# Altium footprint library 2021-06-29_08-18-09.PcbLib: 3 footprints
Each footprint in its own frame and in the unit in brackets; x right, y up, seen from the top. Pads: shape width x height; smd on the part's side, far side on the other; paste and mask are expansions set on the pad; w line width, h text height; cw(c..) or ccw(c..) is an arc to the next point about the centre after c.
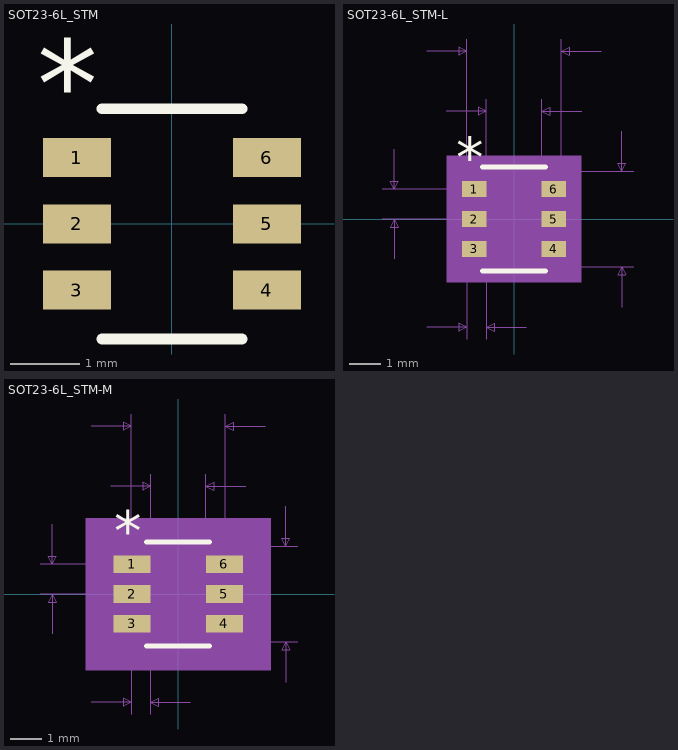
[diagram p0: the footprints below, top view; thin cyan lines are the x and y axes]

## SOT23-6L_STM [mm]
pads (6):
  rect 0.972x0.558 smd paste+0 mask+0: 1(-1.362,0.95) 2(-1.362,0) 3(-1.362,-0.95) 4(1.362,-0.95) 5(1.362,0) 6(1.362,0.95)
Top Overlay:
  lines w0.152: -1.003,-1.651 1.003,-1.651 ; -1.003,1.651 1.003,1.651
  text "*" at -1.934,1.381 h1.27
3D body "SOT23-6L_STM.step": height 1.45, standoff 0, extent -1.499,-1.524 1.499,1.524

## SOT23-6L_STM-L [mil]
pads (6):
  rect 30.41x20 smd paste+0 mask+0: 1(-49.7,37.4) 2(-49.7,0) 3(-49.7,-37.4) 4(49.7,-37.4) 5(49.7,0) 6(49.7,37.4)
Top Overlay:
  lines w6: -39.5,-65 39.5,-65 ; -39.5,65 39.5,65
  text "*" at -72.2,52.4 h50
Mechanical 5:
  region: 83.91,-79 -83.91,-79 -83.91,79 83.91,79
Mechanical 7:
  lines w1: -164.7,0 -49.7,0 ; -164.7,37.4 -49.7,37.4 ; -149.7,-50 -149.7,0 ; -149.7,87.4 -149.7,37.4 ; -109,-135 -59,-135 ; -109,210 -59,210 ; -84.5,135 -34.5,135 ; -59,-150 -59,0 -59,225 ; -35,-150 -35,0 ; -34.5,0 -34.5,150 ; 0,-60 149.5,-60 ; 0,60 149.5,60 ; 15,-135 -35,-135 ; 34.5,0 34.5,150 ; 59,0 59,225 ; 84.5,135 34.5,135 ; 109,210 59,210 ; 134.5,-110 134.5,-60 ; 134.5,110 134.5,60 ; -149.7,0 -154.7,-10 -144.7,-10 -149.7,0 ; -149.7,37.4 -154.7,47.4 -144.7,47.4 -149.7,37.4 ; -59,-135 -69,-130 -69,-140 -59,-135 ; -59,210 -69,215 -69,205 -59,210 ; -35,-135 -25,-130 -25,-140 -35,-135 ; -34.5,135 -44.5,140 -44.5,130 -34.5,135 ; 34.5,135 44.5,140 44.5,130 34.5,135 ; 59,210 69,215 69,205 59,210 ; 134.5,-60 129.5,-70 139.5,-70 134.5,-60 ; 134.5,60 129.5,70 139.5,70 134.5,60
  text "Default Padstyle: r77_51" at -300,-260 h50
  text "Pin One Padstyle: r77_51" at -300,-320 h50
  text "Alt 1 Padstyle: b152_229h76" at -337.5,-500 h50
  text "Alt 2 Padstyle: b229_152h76" at -337.5,-560 h50
  text "0.069in/1.753mm" at -93.75,155 h25
  text "0.118in/2.997mm" at -93.75,230 h25
  text "0.12in/3.048mm" at 154.5,-12.5 h25
  text "0.037in/0.95mm" at -344.7,6.2 h25
  text "0.024in/0.61mm" at -134.5,-180 h25
Mechanical 13:
  lines w0: -12,60 ccw(c0,60) 12,60
  lines w1: -59,-47.4 -59,-27.4 -34.5,-27.4 -34.5,-47.4 -59,-47.4 ; -59,-10 -59,10 -34.5,10 -34.5,-10 -59,-10 ; -59,27.4 -59,47.4 -34.5,47.4 -34.5,27.4 -59,27.4 ; -34.5,-60 34.5,-60 34.5,60 -34.5,60 -34.5,-60 ; 34.5,-47.4 34.5,-27.4 59,-27.4 59,-47.4 34.5,-47.4 ; 34.5,-10 34.5,10 59,10 59,-10 34.5,-10 ; 34.5,27.4 34.5,47.4 59,47.4 59,27.4 34.5,27.4
  text "*" at -32,7 h50
Mechanical 15:
  region: -38.5,-51.4 -68.91,-51.4 -68.91,51.4 -38.5,51.4 -38.5,64 38.5,64 38.5,51.4 68.91,51.4 68.91,-51.4 38.5,-51.4 38.5,-64 -38.5,-64
  lines w6: -68.91,-51.4 -68.91,51.4 -38.5,51.4 -38.5,64 38.5,64 38.5,51.4 68.91,51.4 68.91,-51.4 38.5,-51.4 38.5,-64 -38.5,-64 -38.5,-51.4 -68.91,-51.4
3D body: height 10, standoff 0, extent 0,0 10,10

## SOT23-6L_STM-M [mm]
pads (6):
  rect 1.172x0.558 smd paste+0 mask+0: 1(-1.462,0.95) 2(-1.462,0) 3(-1.462,-0.95) 4(1.462,-0.95) 5(1.462,0) 6(1.462,0.95)
Top Overlay:
  lines w0.152: -1.003,-1.651 1.003,-1.651 ; -1.003,1.651 1.003,1.651
  text "*" at -2.034,1.381 h1.27
Mechanical 5:
  region: 2.938,-2.413 -2.938,-2.413 -2.938,2.413 2.938,2.413
Mechanical 7:
  lines w0.025: -4.383,0 -1.462,0 ; -4.383,0.95 -1.462,0.95 ; -4.002,-1.27 -4.002,0 ; -4.002,2.22 -4.002,0.95 ; -2.769,-3.429 -1.499,-3.429 ; -2.769,5.334 -1.499,5.334 ; -2.146,3.429 -0.876,3.429 ; -1.499,-3.81 -1.499,0 -1.499,5.715 ; -0.889,-3.81 -0.889,0 ; -0.876,0 -0.876,3.81 ; 0,-1.524 3.797,-1.524 ; 0,1.524 3.797,1.524 ; 0.381,-3.429 -0.889,-3.429 ; 0.876,0 0.876,3.81 ; 1.499,0 1.499,5.715 ; 2.146,3.429 0.876,3.429 ; 2.769,5.334 1.499,5.334 ; 3.416,-2.794 3.416,-1.524 ; 3.416,2.794 3.416,1.524 ; -4.002,0 -4.129,-0.254 -3.875,-0.254 -4.002,0 ; -4.002,0.95 -4.129,1.204 -3.875,1.204 -4.002,0.95 ; -1.499,-3.429 -1.753,-3.302 -1.753,-3.556 -1.499,-3.429 ; -1.499,5.334 -1.753,5.461 -1.753,5.207 -1.499,5.334 ; -0.889,-3.429 -0.635,-3.302 -0.635,-3.556 -0.889,-3.429 ; -0.876,3.429 -1.13,3.556 -1.13,3.302 -0.876,3.429 ; 0.876,3.429 1.13,3.556 1.13,3.302 0.876,3.429 ; 1.499,5.334 1.753,5.461 1.753,5.207 1.499,5.334 ; 3.416,-1.524 3.289,-1.778 3.543,-1.778 3.416,-1.524 ; 3.416,1.524 3.289,1.778 3.543,1.778 3.416,1.524
  text "Default Padstyle: r117_56" at -7.938,-6.604 h1.27
  text "Pin One Padstyle: r117_56" at -7.938,-8.128 h1.27
  text "Alt 1 Padstyle: b152_229h76" at -8.572,-12.7 h1.27
  text "Alt 2 Padstyle: b229_152h76" at -8.572,-14.224 h1.27
  text "0.069in/1.753mm" at -2.381,3.937 h0.64
  text "0.118in/2.997mm" at -2.381,5.842 h0.64
  text "0.12in/3.048mm" at 3.924,-0.318 h0.64
  text "0.037in/0.95mm" at -8.955,0.158 h0.64
  text "0.024in/0.61mm" at -3.416,-4.572 h0.64
Mechanical 13:
  lines w0: -0.305,1.524 ccw(c0,1.524) 0.305,1.524
  lines w0.025: -1.499,-1.204 -1.499,-0.696 -0.876,-0.696 -0.876,-1.204 -1.499,-1.204 ; -1.499,-0.254 -1.499,0.254 -0.876,0.254 -0.876,-0.254 -1.499,-0.254 ; -1.499,0.696 -1.499,1.204 -0.876,1.204 -0.876,0.696 -1.499,0.696 ; -0.876,-1.524 0.876,-1.524 0.876,1.524 -0.876,1.524 -0.876,-1.524 ; 0.876,-1.204 0.876,-0.696 1.499,-0.696 1.499,-1.204 0.876,-1.204 ; 0.876,-0.254 0.876,0.254 1.499,0.254 1.499,-0.254 0.876,-0.254 ; 0.876,0.696 0.876,1.204 1.499,1.204 1.499,0.696 0.876,0.696
  text "*" at -0.813,0.178 h1.27
Mechanical 15:
  region: -1.384,-1.737 -2.557,-1.737 -2.557,1.737 -1.384,1.737 -1.384,2.032 1.384,2.032 1.384,1.737 2.557,1.737 2.557,-1.737 1.384,-1.737 1.384,-2.032 -1.384,-2.032
  lines w0.152: -2.557,-1.737 -2.557,1.737 -1.384,1.737 -1.384,2.032 1.384,2.032 1.384,1.737 2.557,1.737 2.557,-1.737 1.384,-1.737 1.384,-2.032 -1.384,-2.032 -1.384,-1.737 -2.557,-1.737
3D body: height 0.25, standoff 0, extent 0,0 0.254,0.254